# Altium schematic symbol library MOD-BU-01-DW1000.SchLib: 1 symbol
Pins are listed as number, name and electrical type; pins without a type are passive.

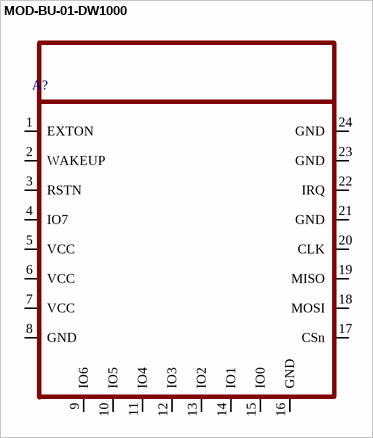
[diagram p0: symbol MOD-BU-01-DW1000]

## MOD-BU-01-DW1000
designator A?
pins: 1 EXTON, 2 WAKEUP, 3 RSTN, 4 IO7, 5 VCC, 6 VCC, 7 VCC, 8 GND, 9 IO6, 10 IO5, 11 IO4, 12 IO3, 13 IO2, 14 IO1, 15 IO0, 16 GND, 17 CSn, 18 MOSI, 19 MISO, 20 CLK, 21 GND, 22 IRQ, 23 GND, 24 GND